# Altium schematic symbol library 13-Standard Logic 逻辑电路.SchLib: 227 symbols (part 2 of 2)
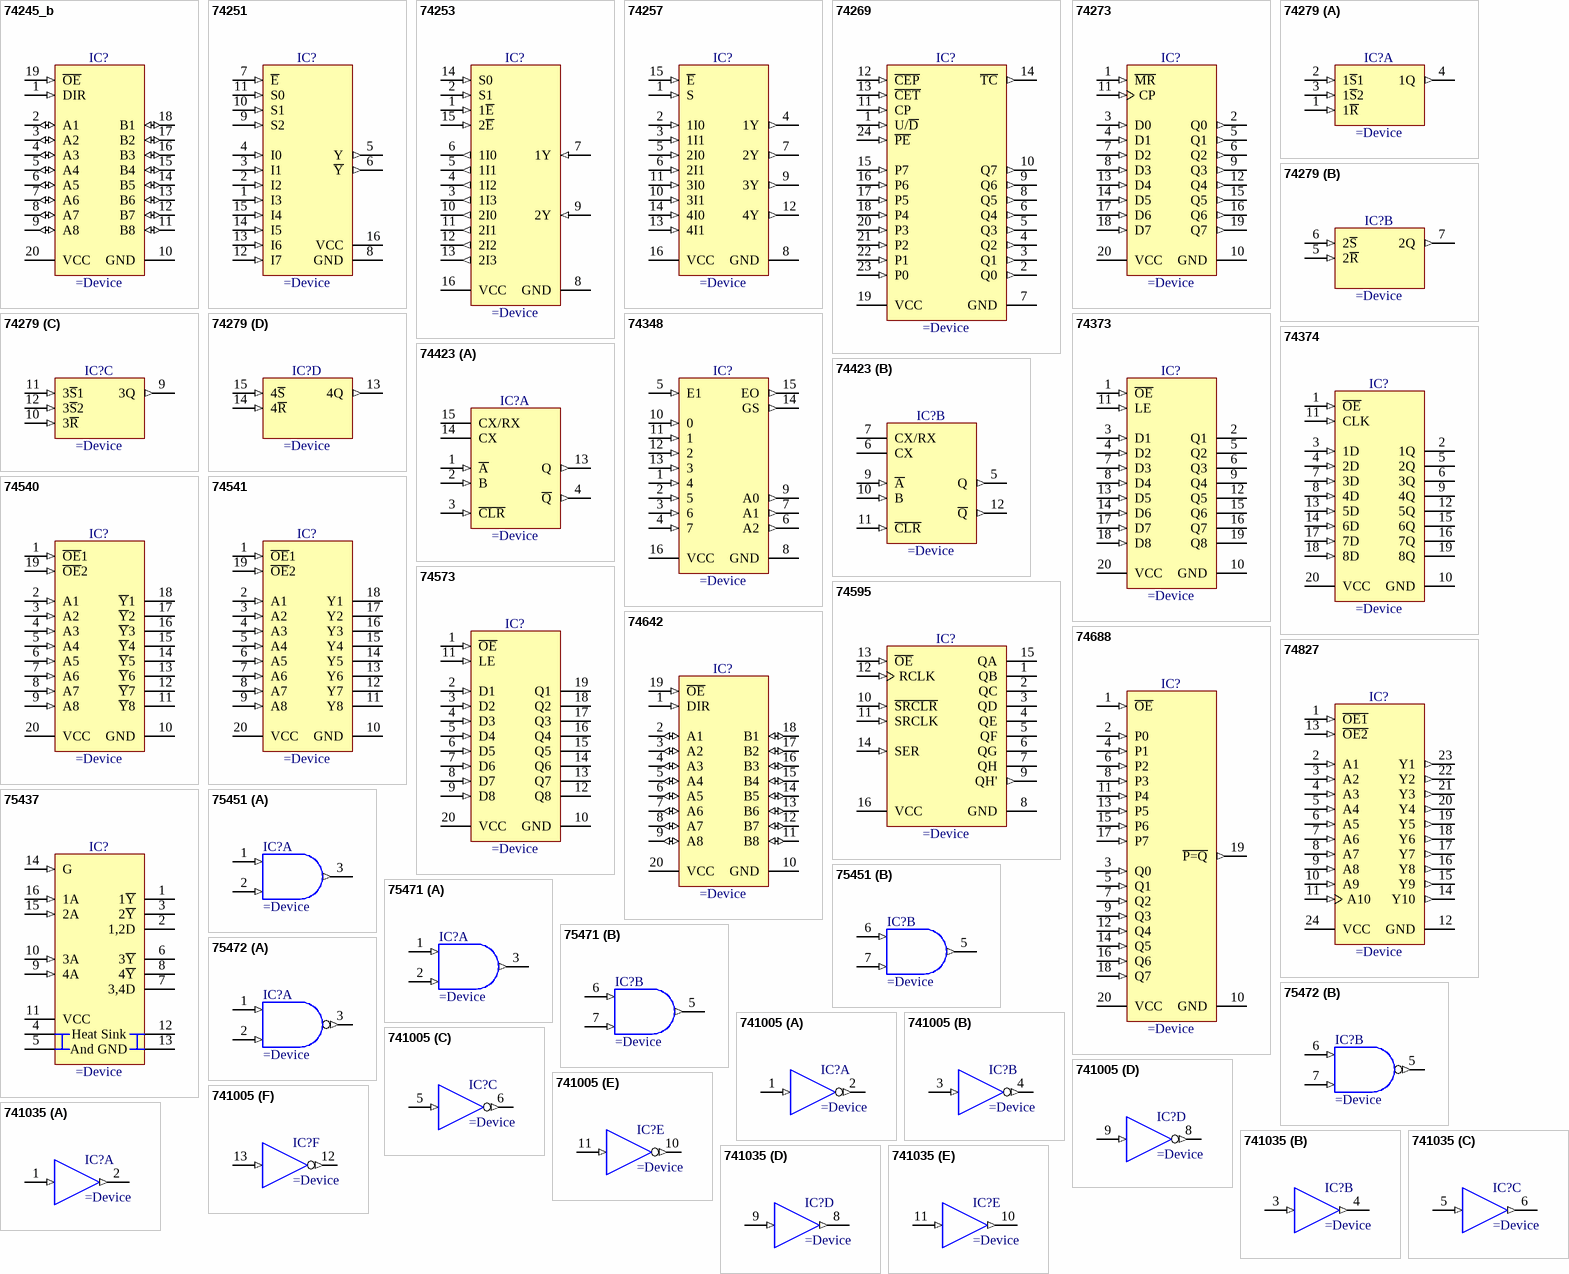
[diagram p11: symbols 74245_b to 741035]

## 74279
designator IC?
Quad S/-R/ Latch
pins on every part: 8 GND (power) hidden to GND, 16 VCC (power) hidden to VCC
part A pins: 1 1~{R} (in), 2 1~{S}1 (in), 3 1~{S}2 (in), 4 1Q (out)
part B pins: 5 2~{R} (in), 6 2~{S} (in), 7 2Q (out)
part C pins: 9 3Q (out), 10 3~{R} (in), 11 3~{S}1 (in), 12 3~{S}2 (in)
part D pins: 13 4Q (out), 14 4~{R} (in), 15 4~{S} (in)

## 74348
designator IC?
8-Line to 3-Line Priority Encoder with 3-State Outputs
pins: 1 4 (in) "data output (active LOW)", 2 5 (in) "data output (active LOW)", 3 6 (in) "data output (active LOW)", 4 7 (in) "data output (active LOW)", 5 E1 (in) "data output (active LOW)", 6 A2 (out) "data output (active LOW)", 7 A1 (out) "data output (active LOW)", 8 GND (power) "data output (active LOW)", 9 A0 (out) "data output (active LOW)", 10 0 (in) "data output (active LOW)", 11 1 (in) "data output (active LOW)", 12 2 (in) "data output (active LOW)", 13 3 (in) "data output (active LOW)", 14 GS (out) "data output (active LOW)", 15 EO (out) "data output (active LOW)", 16 VCC (power) "data output (active LOW)"

## 74373
designator IC?
Octal Transparent D-Type Latches with 3-State Outputs
pins: 1 ~{OE} (in), 2 Q1 (hiz), 3 D1 (in), 4 D2 (in), 5 Q2 (hiz), 6 Q3 (hiz), 7 D3 (in), 8 D4 (in), 9 Q4 (hiz), 10 GND (power), 11 LE (in), 12 Q5 (hiz), 13 D5 (in), 14 D6 (in), 15 Q6 (hiz), 16 Q7 (hiz), 17 D7 (in), 18 D8 (in), 19 Q8 (hiz), 20 VCC (power)

## 74374
designator IC?
Octal Edge-Triggered D-Type Flip-Flops with 3-State Outputs
pins: 1 ~{OE} (in), 2 1Q (hiz), 3 1D (in), 4 2D (in), 5 2Q (hiz), 6 3Q (hiz), 7 3D (in), 8 4D (in), 9 4Q (hiz), 10 GND (power), 11 CLK (in), 12 5Q (hiz), 13 5D (in), 14 6D (in), 15 6Q (hiz), 16 7Q (hiz), 17 7D (in), 18 8D (in), 19 8Q (hiz), 20 VCC (power)

## 74423
designator IC?
Dual Retriggerable Monostable Multivibrator
pins on every part: 8 GND (power) hidden to GND, 16 VCC (power) hidden to VCC
part A pins: 1 ~{A} (in), 2 B (in), 3 ~{CLR} (in), 4 ~{Q} (out), 13 Q (out), 14 CX, 15 CX/RX
part B pins: 5 Q (out), 6 CX, 7 CX/RX, 9 ~{A} (in), 10 B (in), 11 ~{CLR} (in), 12 ~{Q} (out)

## 74540
designator IC?
Octal Buffer and Line Driver with 3-State Outputs
pins: 1 ~{OE}1 (in), 2 A1 (in), 3 A2 (in), 4 A3 (in), 5 A4 (in), 6 A5 (in), 7 A6 (in), 8 A7 (in), 9 A8 (in), 10 GND (power), 11 ~{Y}8 (hiz), 12 ~{Y}7 (hiz), 13 ~{Y}6 (hiz), 14 ~{Y}5 (hiz), 15 ~{Y}4 (hiz), 16 ~{Y}3 (hiz), 17 ~{Y}2 (hiz), 18 ~{Y}1 (hiz), 19 ~{OE}2 (in), 20 VCC (power)

## 74541
designator IC?
Octal Buffer/Line Driver with 3-State Outputs
pins: 1 ~{OE}1 (in), 2 A1 (in), 3 A2 (in), 4 A3 (in), 5 A4 (in), 6 A5 (in), 7 A6 (in), 8 A7 (in), 9 A8 (in), 10 GND (power), 11 Y8 (hiz), 12 Y7 (hiz), 13 Y6 (hiz), 14 Y5 (hiz), 15 Y4 (hiz), 16 Y3 (hiz), 17 Y2 (hiz), 18 Y1 (hiz), 19 ~{OE}2 (in), 20 VCC (power)

## 74573
designator IC?
Octal Transparent D-Type Latches with 3-State Outputs
pins: 1 ~{OE} (in), 2 D1 (in), 3 D2 (in), 4 D3 (in), 5 D4 (in), 6 D5 (in), 7 D6 (in), 8 D7 (in), 9 D8 (in), 10 GND (power), 11 LE (in), 12 Q8 (hiz), 13 Q7 (hiz), 14 Q6 (hiz), 15 Q5 (hiz), 16 Q4 (hiz), 17 Q3 (hiz), 18 Q2 (hiz), 19 Q1 (hiz), 20 VCC (power)

## 74595
designator IC?
8-Bit Shift Register With 3-State Output Register
pins: 1 QB (hiz), 2 QC (hiz), 3 QD (hiz), 4 QE (hiz), 5 QF (hiz), 6 QG (hiz), 7 QH (hiz), 8 GND (power), 9 QH' (out), 10 ~{SRCLR} (in), 11 SRCLK (in), 12 RCLK (in), 13 ~{OE} (in), 14 SER (in), 15 QA (hiz), 16 VCC (power)

## 74642
designator IC?
Octal Inverting Bus Transceiver with Open-Collector Output
pins: 1 DIR (in), 2 A1 (io), 3 A2 (io), 4 A3 (io), 5 A4 (io), 6 A5 (io), 7 A6 (io), 8 A7 (io), 9 A8 (io), 10 GND (power), 11 B8 (io), 12 B7 (io), 13 B6 (io), 14 B5 (io), 15 B4 (io), 16 B3 (io), 17 B2 (io), 18 B1 (io), 19 ~{OE} (in), 20 VCC (power)

## 74688
designator IC?
8-Bit Magnitude Comparator (Equality Detector)
pins: 1 ~{OE} (in), 2 P0 (in), 3 Q0 (in), 4 P1 (in), 5 Q1 (in), 6 P2 (in), 7 Q2 (in), 8 P3 (in), 9 Q3 (in), 10 GND (power), 11 P4 (in), 12 Q4 (in), 13 P5 (in), 14 Q5 (in), 15 P6 (in), 16 Q6 (in), 17 P7 (in), 18 Q7 (in), 19 ~{P=Q} (out), 20 VCC (power)

## 74827
designator IC?
10-Bit Buffer/Driver With 3-State Output
pins: 1 ~{OE1} (in), 2 A1 (in), 3 A2 (in), 4 A3 (in), 5 A4 (in), 6 A5 (in), 7 A6 (in), 8 A7 (in), 9 A8 (in), 10 A9 (in), 11 A10 (in), 12 GND (power), 13 ~{OE2} (in), 14 Y10 (out), 15 Y9 (out), 16 Y8 (out), 17 Y7 (out), 18 Y6 (out), 19 Y5 (out), 20 Y4 (out), 21 Y3 (out), 22 Y2 (out), 23 Y1 (out), 24 VCC (power)

## 75437
designator IC?
Quadruple Peripheral Driver
pins: 1 1~{Y} (oc), 2 1,2D, 3 2~{Y} (oc), 4 GND (power), 5 GND (power), 6 3~{Y} (oc), 7 3,4D, 8 4~{Y} (oc), 9 4A (in), 10 3A (in), 11 VCC (power), 12 GND (power), 13 GND (power), 14 G (in), 15 2A (in), 16 1A (in)
text: Heat Sink; And GND

## 75451
designator IC?
Dual Channel, AND Gate Based Peripheral Driver
pins on every part: 4 GND (power) hidden to GND, 8 VCC (power) hidden to VCC
part A pins: 1 A (in), 2 B (in), 3 Y (out)
part B pins: 5 Y (out), 6 A (in), 7 B (in)

## 75471
designator IC?
Dual Channel, AND Gate Based Peripheral Driver
pins on every part: 4 GND (power) hidden to GND, 8 VCC (power) hidden to VCC
part A pins: 1 A (in), 2 B (in), 3 Y (out)
part B pins: 5 Y (out), 6 A (in), 7 B (in)

## 75472
designator IC?
Dual Channel, NAND Gate Based Peripheral Driver
pins on every part: 4 GND (power) hidden to GND, 8 VCC (power) hidden to VCC
part A pins: 1 A (in), 2 B (in), 3 Y (out)
part B pins: 5 Y (out), 6 A (in), 7 B (in)

## 741005
designator IC?
Hex Inverter Buffers With Open-Collector Output
pins on every part: 7 GND (power) hidden to GND, 14 VCC (power) hidden to VCC
part A pins: 1 IN (in), 2 OUT (out)
part B pins: 3 IN (in), 4 OUT (out)
part C pins: 5 IN (in), 6 OUT (out)
part D pins: 8 OUT (out), 9 IN (in)
part E pins: 10 OUT (out), 11 IN (in)
part F pins: 12 OUT (out), 13 IN (in)

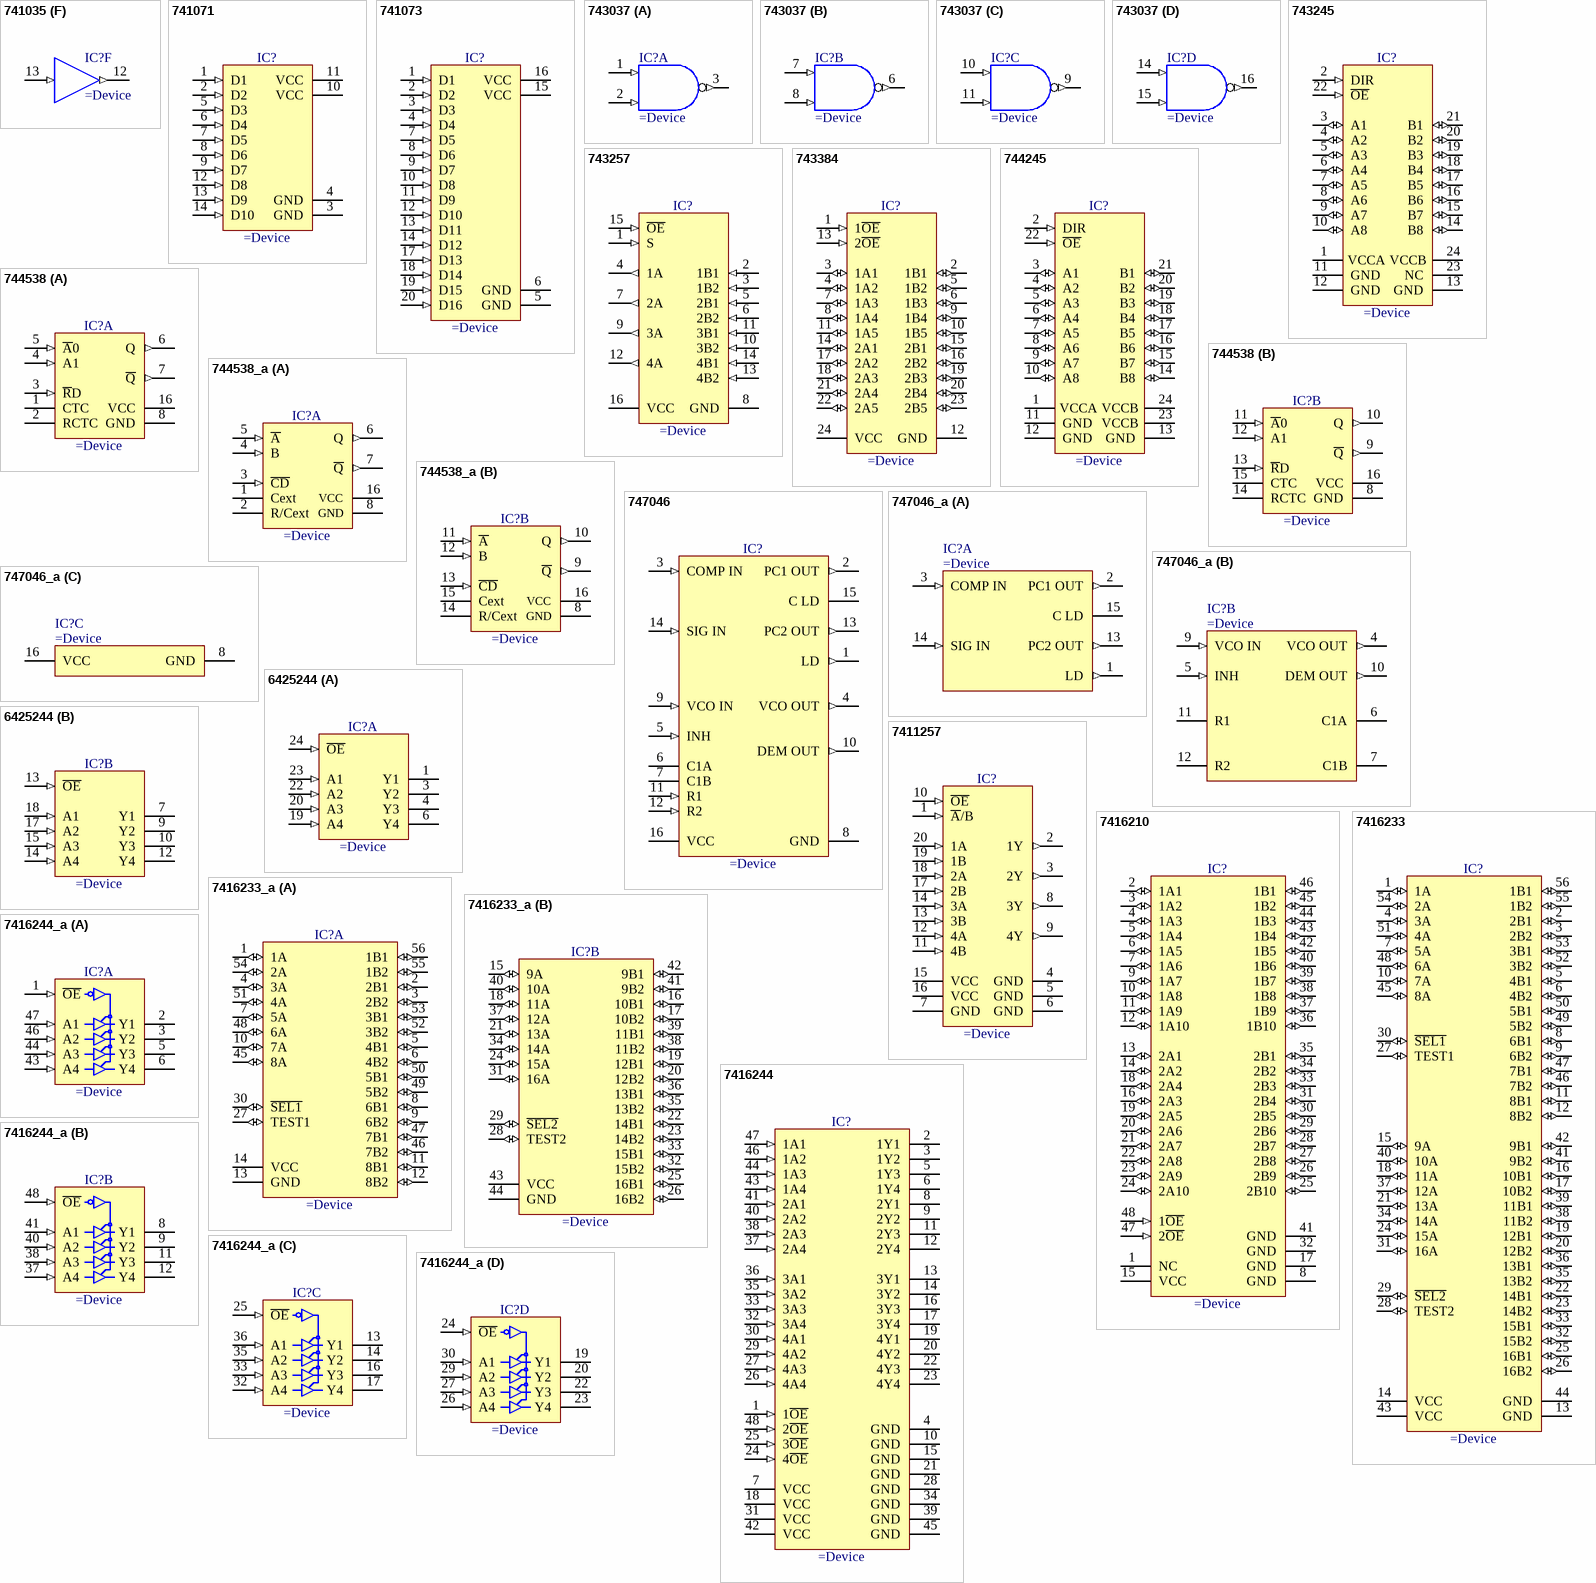
[diagram p9: symbols 741035 to 7416244_a]

## 741035
designator IC?
Hex NonInverting Buffers With Open-Collector Output
pins on every part: 7 GND (power) hidden to GND, 14 VCC (power) hidden to VCC
part A pins: 1 IN (in), 2 OUT (out)
part B pins: 3 IN (in), 4 OUT (out)
part C pins: 5 IN (in), 6 OUT (out)
part D pins: 8 OUT (out), 9 IN (in)
part E pins: 10 OUT (out), 11 IN (in)
part F pins: 12 OUT (out), 13 IN (in)

## 741071
designator IC?
10-Bit Bus-Termination Array With Bus-Hold Function
pins: 1 D1 (in), 2 D2 (in), 3 GND (power), 4 GND (power), 5 D3 (in), 6 D4 (in), 7 D5 (in), 8 D6 (in), 9 D7 (in), 10 VCC (power), 11 VCC (power), 12 D8 (in), 13 D9 (in), 14 D10 (in)

## 741073
designator IC?
16-Bit Bus-Termination Array With Bus-Hold Function
pins: 1 D1 (in), 2 D2 (in), 3 D3 (in), 4 D4 (in), 5 GND (power), 6 GND (power), 7 D5 (in), 8 D6 (in), 9 D7 (in), 10 D8 (in), 11 D9 (in), 12 D10 (in), 13 D11 (in), 14 D12 (in), 15 VCC (power), 16 VCC (power), 17 D13 (in), 18 D14 (in), 19 D15 (in), 20 D16 (in)

## 743037
designator IC?
Quad 2-Input NAND 30 Ohm Line Driver
pins on every part: 4 GND (power) hidden to GND, 5 GND (power) hidden to GND, 12 VCC (power) hidden to VCC, 13 VCC (power) hidden to VCC
part A pins: 1 A (in), 2 B (in), 3 Q (out)
part B pins: 6 Q (out), 7 A (in), 8 B (in)
part C pins: 9 Q (out), 10 A (in), 11 B (in)
part D pins: 14 A (in), 15 B (in), 16 Q (out)

## 743245
designator IC?
Octal Bus Transceiver with Adjustable Output Voltage and 3-State Outputs
pins: 1 VCCA (power), 2 DIR (in), 3 A1 (io), 4 A2 (io), 5 A3 (io), 6 A4 (io), 7 A5 (io), 8 A6 (io), 9 A7 (io), 10 A8 (io), 11 GND (power), 12 GND (power), 13 GND (power), 14 B8 (io), 15 B7 (io), 16 B6 (io), 17 B5 (io), 18 B4 (io), 19 B3 (io), 20 B2 (io), 21 B1 (io), 22 ~{OE} (in), 23 NC, 24 VCCB (power)

## 743257
designator IC?
4-BIT 1-OF-2 FET Multiplexer/Demultiplexer 2.5V/3.3V Low-Voltage Bus Switch 5V Tolerant Shifter
pins: 1 S (in) "data output (active LOW)", 2 1B1 (in) "data output (active LOW)", 3 1B2 (in) "data output (active LOW)", 4 1A (out) "data output (active LOW)", 5 2B1 (in) "data output (active LOW)", 6 2B2 (in) "data output (active LOW)", 7 2A (out) "data output (active LOW)", 8 GND (power) "data output (active LOW)", 9 3A (out) "data output (active LOW)", 10 3B2 (in) "data output (active LOW)", 11 3B1 (in) "data output (active LOW)", 12 4A (out) "data output (active LOW)", 13 4B2 (in) "data output (active LOW)", 14 4B1 (in) "data output (active LOW)", 15 ~{OE} (in) "data output (active LOW)", 16 VCC (power) "data output (active LOW)"

## 743384
designator IC?
10-Bit FET Bus Switch 2.5-V/3.3-V Low-Voltage Bus Switch with 5-V-Tolerant Level Shifter
pins: 1 1~{OE} (in), 2 1B1 (io), 3 1A1 (io), 4 1A2 (io), 5 1B2 (io), 6 1B3 (io), 7 1A3 (io), 8 1A4 (io), 9 1B4 (io), 10 1B5 (io), 11 1A5 (io), 12 GND (power), 13 2~{OE} (in), 14 2A1 (io), 15 2B1 (io), 16 2B2 (io), 17 2A2 (io), 18 2A3 (io), 19 2B3 (io), 20 2B4 (io), 21 2A4 (io), 22 2A5 (io), 23 2B5 (io), 24 VCC (power)

## 744245
designator IC?
Octal Bus Transceiver and 3.3V to 5V Shifter with 3-State Outputs
pins: 1 VCCA (power), 2 DIR (in), 3 A1 (io), 4 A2 (io), 5 A3 (io), 6 A4 (io), 7 A5 (io), 8 A6 (io), 9 A7 (io), 10 A8 (io), 11 GND (power), 12 GND (power), 13 GND (power), 14 B8 (io), 15 B7 (io), 16 B6 (io), 17 B5 (io), 18 B4 (io), 19 B3 (io), 20 B2 (io), 21 B1 (io), 22 ~{OE} (in), 23 VCCB (power), 24 VCCB (power)

## 744538
designator IC?
Dual Retriggerable Precision Monostable Multivibrator
pins on every part: 8 GND (power), 16 VCC (power)
part A pins: 1 CTC, 2 RCTC, 3 ~{R}D (in), 4 A1 (in), 5 ~{A}0 (in), 6 Q (out), 7 ~{Q} (out)
part B pins: 9 ~{Q} (out), 10 Q (out), 11 ~{A}0 (in), 12 A1 (in), 13 ~{R}D (in), 14 RCTC, 15 CTC

## 744538_a
designator IC?
Dual Retriggerable Precision Monostable Multivibrator
pins on every part: 8 GND (power), 16 VCC (power)
part A pins: 1 Cext, 2 R/Cext, 3 ~{CD} (in), 4 B (in), 5 ~{A} (in), 6 Q (out), 7 ~{Q} (out)
part B pins: 9 ~{Q} (out), 10 Q (out), 11 ~{A} (in), 12 B (in), 13 ~{CD} (in), 14 R/Cext, 15 Cext

## 747046
designator IC?
Phase-Locked Loop with VCO and Lock Detector
pins: 1 LD (out), 2 PC1 OUT (out), 3 COMP IN (in), 4 VCO OUT (out), 5 INH (in), 6 C1A, 7 C1B, 8 GND (power), 9 VCO IN (in), 10 DEM OUT (out), 11 R1 (in), 12 R2 (in), 13 PC2 OUT (out), 14 SIG IN (in), 15 C LD, 16 VCC (power)

## 747046_a
designator IC?
Phase-Locked Loop with VCO and Lock Detector
part A pins: 1 LD (out), 2 PC1 OUT (out), 3 COMP IN (in), 13 PC2 OUT (out), 14 SIG IN (in), 15 C LD
part B pins: 4 VCO OUT (out), 5 INH (in), 6 C1A, 7 C1B, 9 VCO IN (in), 10 DEM OUT (out), 11 R1, 12 R2
part C pins: 8 GND (power), 16 VCC (power)

## 6425244
designator IC?
25-Ohm Octal Buffer/Driver with 3-State Outputs
pins on every part: 2 GND (power) hidden to GND, 5 GND (power) hidden to GND, 8 GND (power) hidden to GND, 11 GND (power) hidden to GND, 16 VCC (power) hidden to VCC, 21 VCC (power) hidden to VCC
part A pins: 1 Y1 (hiz), 3 Y2 (hiz), 4 Y3 (hiz), 6 Y4 (hiz), 19 A4 (in), 20 A3 (in), 22 A2 (in), 23 A1 (in), 24 ~{OE} (in)
part B pins: 7 Y1 (hiz), 9 Y2 (hiz), 10 Y3 (hiz), 12 Y4 (hiz), 13 ~{OE} (in), 14 A4 (in), 15 A3 (in), 17 A2 (in), 18 A1 (in)

## 7411257
designator IC?
Quadruple 2-Line to 1-Line Data Selector/Multiplexer With 3-State Outputs
pins: 1 ~{A}/B (in), 2 1Y (out), 3 2Y (out), 4 GND (power), 5 GND (power), 6 GND (power), 7 GND (power), 8 3Y (out), 9 4Y (out), 10 ~{OE} (in), 11 4B (in), 12 4A (in), 13 3B (in), 14 3A (in), 15 VCC (power), 16 VCC (power), 17 2B (in), 18 2A (in), 19 1B (in), 20 1A (in)

## 7416210
designator IC?
20-Bit FET Bus Switch 2.5-V/3.3-V Low-Voltage Bus Switch with 5-V-Tolerant Level Shifter
pins: 1 NC, 2 1A1 (io), 3 1A2 (io), 4 1A3 (io), 5 1A4 (io), 6 1A5 (io), 7 1A6 (io), 8 GND (power), 9 1A7 (io), 10 1A8 (io), 11 1A9 (io), 12 1A10 (io), 13 2A1 (io), 14 2A2 (io), 15 VCC (power), 16 2A3 (io), 17 GND (power), 18 2A4 (io), 19 2A5 (io), 20 2A6 (io), 21 2A7 (io), 22 2A8 (io), 23 2A9 (io), 24 2A10 (io), 25 2B10 (io), 26 2B9 (io), 27 2B8 (io), 28 2B7 (io), 29 2B6 (io), 30 2B5 (io), 31 2B4 (io), 32 GND (power), 33 2B3 (io), 34 2B2 (io), 35 2B1 (io), 36 1B10 (io), 37 1B9 (io), 38 1B8 (io), 39 1B7 (io), 40 1B6 (io), 41 GND (power), 42 1B5 (io), 43 1B4 (io), 44 1B3 (io), 45 1B2 (io), 46 1B1 (io), 47 2~{OE} (in), 48 1~{OE} (in)

## 7416233
designator IC?
16-Bit 1-of-2 FET Multiplexer/Demultiplexer
pins: 1 1A (io), 2 2B1 (io), 3 2B2 (io), 4 3A (io), 5 4B1 (io), 6 4B2 (io), 7 5A (io), 8 6B1 (io), 9 6B2 (io), 10 7A (io), 11 8B1 (io), 12 8B2 (io), 13 GND (power), 14 VCC (power), 15 9A (io), 16 10B1 (io), 17 10B2 (io), 18 11A (io), 19 12B1 (io), 20 12B2 (io), 21 13A (io), 22 14B1 (io), 23 14B2 (io), 24 15A (io), 25 16B1 (io), 26 16B2 (io), 27 TEST1 (io), 28 TEST2 (io), 29 ~{SEL2} (io), 30 ~{SEL1} (io), 31 16A (io), 32 15B2 (io), 33 15B1 (io), 34 14A (io), 35 13B2 (io), 36 13B1 (io), 37 12A (io), 38 11B2 (io), 39 11B1 (io), 40 10A (io), 41 9B2 (io), 42 9B1 (io), 43 VCC (power), 44 GND (power), 45 8A (io), 46 7B2 (io), 47 7B1 (io), 48 6A (io), 49 5B2 (io), 50 5B1 (io), 51 4A (io), 52 3B2 (io), 53 3B1 (io), 54 2A (io), 55 1B2 (io), 56 1B1 (io)

## 7416233_a
designator IC?
16-Bit 1-of-2 FET Multiplexer/Demultiplexer
part A pins: 1 1A (io), 2 2B1 (io), 3 2B2 (io), 4 3A (io), 5 4B1 (io), 6 4B2 (io), 7 5A (io), 8 6B1 (io), 9 6B2 (io), 10 7A (io), 11 8B1 (io), 12 8B2 (io), 13 GND (power), 14 VCC (power), 27 TEST1 (io), 30 ~{SEL1} (io), 45 8A (io), 46 7B2 (io), 47 7B1 (io), 48 6A (io), 49 5B2 (io), 50 5B1 (io), 51 4A (io), 52 3B2 (io), 53 3B1 (io), 54 2A (io), 55 1B2 (io), 56 1B1 (io)
part B pins: 15 9A (io), 16 10B1 (io), 17 10B2 (io), 18 11A (io), 19 12B1 (io), 20 12B2 (io), 21 13A (io), 22 14B1 (io), 23 14B2 (io), 24 15A (io), 25 16B1 (io), 26 16B2 (io), 28 TEST2 (io), 29 ~{SEL2} (io), 31 16A (io), 32 15B2 (io), 33 15B1 (io), 34 14A (io), 35 13B2 (io), 36 13B1 (io), 37 12A (io), 38 11B2 (io), 39 11B1 (io), 40 10A (io), 41 9B2 (io), 42 9B1 (io), 43 VCC (power), 44 GND (power)

## 7416244
designator IC?
16-Bit Buffers/Drivers with 3-State Outputs
pins: 1 1~{OE} (in), 2 1Y1 (hiz), 3 1Y2 (hiz), 4 GND (power), 5 1Y3 (hiz), 6 1Y4 (hiz), 7 VCC (power), 8 2Y1 (hiz), 9 2Y2 (hiz), 10 GND (power), 11 2Y3 (hiz), 12 2Y4 (hiz), 13 3Y1 (hiz), 14 3Y2 (hiz), 15 GND (power), 16 3Y3 (hiz), 17 3Y4 (hiz), 18 VCC (power), 19 4Y1 (hiz), 20 4Y2 (hiz), 21 GND (power), 22 4Y3 (hiz), 23 4Y4 (hiz), 24 4~{OE} (in), 25 3~{OE} (in), 26 4A4 (in), 27 4A3 (in), 28 GND (power), 29 4A2 (in), 30 4A1 (in), 31 VCC (power), 32 3A4 (in), 33 3A3 (in), 34 GND (power), 35 3A2 (in), 36 3A1 (in), 37 2A4 (in), 38 2A3 (in), 39 GND (power), 40 2A2 (in), 41 2A1 (in), 42 VCC (power), 43 1A4 (in), 44 1A3 (in), 45 GND (power), 46 1A2 (in), 47 1A1 (in), 48 2~{OE} (in)

## 7416244_a
designator IC?
16-Bit Buffers/Drivers with 3-State Outputs
pins on every part: 4 GND (power) hidden to GND, 7 VCC (power) hidden to VCC, 10 GND (power) hidden to GND, 15 GND (power) hidden to GND, 18 VCC (power) hidden to VCC, 21 GND (power) hidden to GND, 28 GND (power) hidden to GND, 31 VCC (power) hidden to VCC, 34 GND (power) hidden to GND, 39 GND (power) hidden to GND, 42 VCC (power) hidden to VCC, 45 GND (power) hidden to GND
part A pins: 1 ~{OE} (in), 2 Y1 (hiz), 3 Y2 (hiz), 5 Y3 (hiz), 6 Y4 (hiz), 43 A4 (in), 44 A3 (in), 46 A2 (in), 47 A1 (in)
part B pins: 8 Y1 (hiz), 9 Y2 (hiz), 11 Y3 (hiz), 12 Y4 (hiz), 37 A4 (in), 38 A3 (in), 40 A2 (in), 41 A1 (in), 48 ~{OE} (in)
part C pins: 13 Y1 (hiz), 14 Y2 (hiz), 16 Y3 (hiz), 17 Y4 (hiz), 25 ~{OE} (in), 32 A4 (in), 33 A3 (in), 35 A2 (in), 36 A1 (in)
part D pins: 19 Y1 (hiz), 20 Y2 (hiz), 22 Y3 (hiz), 23 Y4 (hiz), 24 ~{OE} (in), 26 A4 (in), 27 A3 (in), 29 A2 (in), 30 A1 (in)

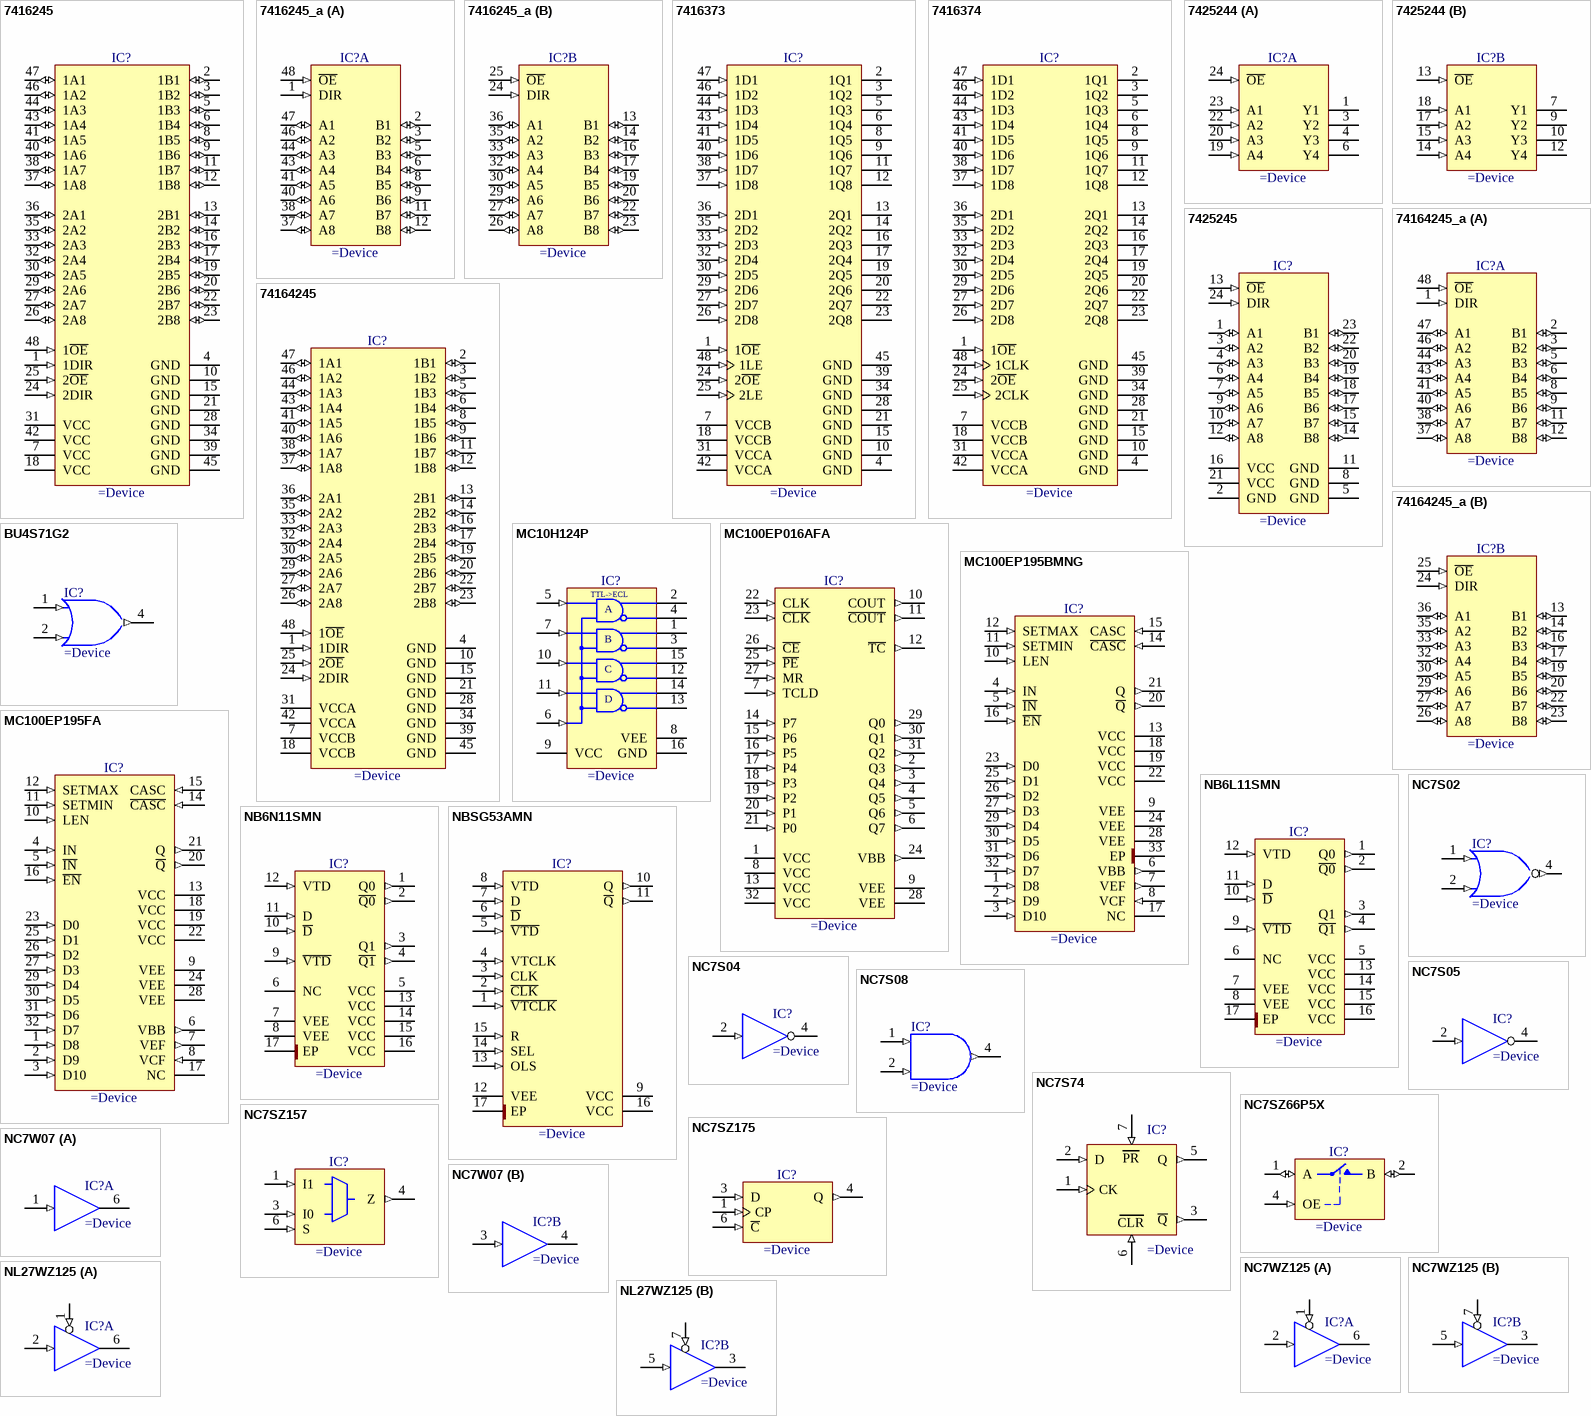
[diagram p10: symbols 7416245 to NL27WZ125]

## 7416245
designator IC?
16-Bit Bus Transceiver with 3-State Outputs
pins: 1 1DIR (in), 2 1B1 (io), 3 1B2 (io), 4 GND (power), 5 1B3 (io), 6 1B4 (io), 7 VCC (power), 8 1B5 (io), 9 1B6 (io), 10 GND (power), 11 1B7 (io), 12 1B8 (io), 13 2B1 (io), 14 2B2 (io), 15 GND (power), 16 2B3 (io), 17 2B4 (io), 18 VCC (power), 19 2B5 (io), 20 2B6 (io), 21 GND (power), 22 2B7 (io), 23 2B8 (io), 24 2DIR (in), 25 2~{OE} (in), 26 2A8 (io), 27 2A7 (io), 28 GND (power), 29 2A6 (io), 30 2A5 (io), 31 VCC (power), 32 2A4 (io), 33 2A3 (io), 34 GND (power), 35 2A2 (io), 36 2A1 (io), 37 1A8 (io), 38 1A7 (io), 39 GND (power), 40 1A6 (io), 41 1A5 (io), 42 VCC (power), 43 1A4 (io), 44 1A3 (io), 45 GND (power), 46 1A2 (io), 47 1A1 (io), 48 1~{OE} (in)

## 7416245_a
designator IC?
16-Bit Bus Transceiver with 3-State Outputs
pins on every part: 4 GND (power) hidden to GND, 7 VCC (power) hidden to VCC, 10 GND (power) hidden to GND, 15 GND (power) hidden to GND, 18 VCC (power) hidden to VCC, 21 GND (power) hidden to GND, 28 GND (power) hidden to GND, 31 VCC (power) hidden to VCC, 34 GND (power) hidden to GND, 39 GND (power) hidden to GND, 42 VCC (power) hidden to VCC, 45 GND (power) hidden to GND
part A pins: 1 DIR (in), 2 B1 (io), 3 B2 (io), 5 B3 (io), 6 B4 (io), 8 B5 (io), 9 B6 (io), 11 B7 (io), 12 B8 (io), 37 A8 (io), 38 A7 (io), 40 A6 (io), 41 A5 (io), 43 A4 (io), 44 A3 (io), 46 A2 (io), 47 A1 (io), 48 ~{OE} (in)
part B pins: 13 B1 (io), 14 B2 (io), 16 B3 (io), 17 B4 (io), 19 B5 (io), 20 B6 (io), 22 B7 (io), 23 B8 (io), 24 DIR (in), 25 ~{OE} (in), 26 A8 (io), 27 A7 (io), 29 A6 (io), 30 A5 (io), 32 A4 (io), 33 A3 (io), 35 A2 (io), 36 A1 (io)

## 7416373
designator IC?
16-Bit Transparent D-Type Latches with 3-State Outputs
pins: 1 1~{OE} (in), 2 1Q1 (hiz), 3 1Q2 (hiz), 4 GND (power), 5 1Q3 (hiz), 6 1Q4 (hiz), 7 VCCB (power), 8 1Q5 (hiz), 9 1Q6 (hiz), 10 GND (power), 11 1Q7 (hiz), 12 1Q8 (hiz), 13 2Q1 (hiz), 14 2Q2 (hiz), 15 GND (power), 16 2Q3 (hiz), 17 2Q4 (hiz), 18 VCCB (power), 19 2Q5 (hiz), 20 2Q6 (hiz), 21 GND (power), 22 2Q7 (hiz), 23 2Q8 (hiz), 24 2~{OE} (in), 25 2LE (in), 26 2D8 (in), 27 2D7 (in), 28 GND (power), 29 2D6 (in), 30 2D5 (in), 31 VCCA (power), 32 2D4 (in), 33 2D3 (in), 34 GND (power), 35 2D2 (in), 36 2D1 (in), 37 1D8 (in), 38 1D7 (in), 39 GND (power), 40 1D6 (in), 41 1D5 (in), 42 VCCA (power), 43 1D4 (in), 44 1D3 (in), 45 GND (power), 46 1D2 (in), 47 1D1 (in), 48 1LE (in)

## 7416374
designator IC?
16-Bit Edge-Triggered D-Type Flip-Flop with 3-State Outputs
pins: 1 1~{OE} (in), 2 1Q1 (hiz), 3 1Q2 (hiz), 4 GND (power), 5 1Q3 (hiz), 6 1Q4 (hiz), 7 VCCB (power), 8 1Q5 (hiz), 9 1Q6 (hiz), 10 GND (power), 11 1Q7 (hiz), 12 1Q8 (hiz), 13 2Q1 (hiz), 14 2Q2 (hiz), 15 GND (power), 16 2Q3 (hiz), 17 2Q4 (hiz), 18 VCCB (power), 19 2Q5 (hiz), 20 2Q6 (hiz), 21 GND (power), 22 2Q7 (hiz), 23 2Q8 (hiz), 24 2~{OE} (in), 25 2CLK (in), 26 2D8 (in), 27 2D7 (in), 28 GND (power), 29 2D6 (in), 30 2D5 (in), 31 VCCA (power), 32 2D4 (in), 33 2D3 (in), 34 GND (power), 35 2D2 (in), 36 2D1 (in), 37 1D8 (in), 38 1D7 (in), 39 GND (power), 40 1D6 (in), 41 1D5 (in), 42 VCCA (power), 43 1D4 (in), 44 1D3 (in), 45 GND (power), 46 1D2 (in), 47 1D1 (in), 48 1CLK (in)

## 7425244
designator IC?
25-Ohm Octal Buffer/Driver with 3-State Outputs
pins on every part: 2 GND (power) hidden to GND, 5 GND (power) hidden to GND, 8 GND (power) hidden to GND, 11 GND (power) hidden to GND, 16 VCC (power) hidden to VCC, 21 VCC (power) hidden to VCC
part A pins: 1 Y1 (hiz), 3 Y2 (hiz), 4 Y3 (hiz), 6 Y4 (hiz), 19 A4 (in), 20 A3 (in), 22 A2 (in), 23 A1 (in), 24 ~{OE} (in)
part B pins: 7 Y1 (hiz), 9 Y2 (hiz), 10 Y3 (hiz), 12 Y4 (hiz), 13 ~{OE} (in), 14 A4 (in), 15 A3 (in), 17 A2 (in), 18 A1 (in)

## 7425245
designator IC?
25 Ohms Octal Bus Transceiver With 3-State Outputs
pins: 1 A1 (io), 2 GND (power), 3 A2 (io), 4 A3 (io), 5 GND (power), 6 A4 (io), 7 A5 (io), 8 GND (power), 9 A6 (io), 10 A7 (io), 11 GND (power), 12 A8 (io), 13 ~{OE} (in), 14 B8 (io), 15 B7 (io), 16 VCC (power), 17 B6 (io), 18 B5 (io), 19 B4 (io), 20 B3 (io), 21 VCC (power), 22 B2 (io), 23 B1 (io), 24 DIR (in)

## 74164245
designator IC?
16-Bit 2.5V To 3.3V/3.3V TO 5V Level-Shifting Transceiver with 3-State Outputs
pins: 1 1DIR (in), 2 1B1 (io), 3 1B2 (io), 4 GND (power), 5 1B3 (io), 6 1B4 (io), 7 VCCB (power), 8 1B5 (io), 9 1B6 (io), 10 GND (power), 11 1B7 (io), 12 1B8 (io), 13 2B1 (io), 14 2B2 (io), 15 GND (power), 16 2B3 (io), 17 2B4 (io), 18 VCCB (power), 19 2B5 (io), 20 2B6 (io), 21 GND (power), 22 2B7 (io), 23 2B8 (io), 24 2DIR (in), 25 2~{OE} (in), 26 2A8 (io), 27 2A7 (io), 28 GND (power), 29 2A6 (io), 30 2A5 (io), 31 VCCA (power), 32 2A4 (io), 33 2A3 (io), 34 GND (power), 35 2A2 (io), 36 2A1 (io), 37 1A8 (io), 38 1A7 (io), 39 GND (power), 40 1A6 (io), 41 1A5 (io), 42 VCCA (power), 43 1A4 (io), 44 1A3 (io), 45 GND (power), 46 1A2 (io), 47 1A1 (io), 48 1~{OE} (in)

## 74164245_a
designator IC?
16-Bit 2.5V To 3.3V/3.3V TO 5V Level-Shifting Transceiver with 3-State Outputs
pins on every part: 4 GND (power) hidden to GND, 7 VCCB (power) hidden to VCC, 10 GND (power) hidden to GND, 15 GND (power) hidden to GND, 18 VCCB (power) hidden to VCC, 21 GND (power) hidden to GND, 28 GND (power) hidden to GND, 31 VCCA (power) hidden to VCC, 34 GND (power) hidden to GND, 39 GND (power) hidden to GND, 42 VCCA (power) hidden to VCC, 45 GND (power) hidden to GND
part A pins: 1 DIR (in), 2 B1 (io), 3 B2 (io), 5 B3 (io), 6 B4 (io), 8 B5 (io), 9 B6 (io), 11 B7 (io), 12 B8 (io), 37 A8 (io), 38 A7 (io), 40 A6 (io), 41 A5 (io), 43 A4 (io), 44 A3 (io), 46 A2 (io), 47 A1 (io), 48 ~{OE} (in)
part B pins: 13 B1 (io), 14 B2 (io), 16 B3 (io), 17 B4 (io), 19 B5 (io), 20 B6 (io), 22 B7 (io), 23 B8 (io), 24 DIR (in), 25 ~{OE} (in), 26 A8 (io), 27 A7 (io), 29 A6 (io), 30 A5 (io), 32 A4 (io), 33 A3 (io), 35 A2 (io), 36 A1 (io)

## BU4S71G2
designator IC?
Single 2-Input OR Gate
pins: 1 A (in), 2 B (in), 3 GND (power) hidden to GND, 4 Y (out), 5 VCC (power) hidden to VCC

## MC10H124P
designator IC?
Quad TTL-to-MECL Translator with TTL Strobe Input
pins: 1 BOUT (oe), 2 AOUT (oe), 3 ~{BOUT} (oe), 4 ~{AOUT} (oe), 5 AIN (in), 6 STB (in), 7 BIN (in), 8 VEE (power), 9 VCC (power), 10 CIN (in), 11 DIN (in), 12 ~{COUT} (oe), 13 ~{DOUT} (oe), 14 DOUT (oe), 15 COUT (oe), 16 GND (power)
text: TTL->ECL; A; B; C; D

## MC100EP016AFA
designator IC?
3.3 V ECL 8-Bit Synchronous Binary Up Counter
pins: 1 VCC (power), 2 Q3 (out), 3 Q4 (out), 4 Q5 (out), 5 Q6 (out), 6 Q7 (out), 7 TCLD (in), 8 VCC (power), 9 VEE (power), 10 COUT (out), 11 ~{COUT} (out), 12 ~{TC} (out), 13 VCC (power), 14 P7 (in), 15 P6 (in), 16 P5 (in), 17 P4 (in), 18 P3 (in), 19 P2 (in), 20 P1 (in), 21 P0 (in), 22 CLK (in), 23 ~{CLK} (in), 24 VBB (out), 25 ~{PE} (in), 26 ~{CE} (in), 27 MR (in), 28 VEE (power), 29 Q0 (out), 30 Q1 (out), 31 Q2 (out), 32 VCC (power)

## MC100EP195BMNG
designator IC?
3.3V ECL Programmable Delay Chip
pins: 1 D8 (in), 2 D9 (in), 3 D10 (in), 4 IN (in), 5 ~{IN} (in), 6 VBB (out), 7 VEF (out), 8 VCF (in), 9 VEE (power), 10 LEN (in), 11 SETMIN (in), 12 SETMAX (in), 13 VCC (power), 14 ~{CASC} (in), 15 CASC (in), 16 ~{EN} (in), 17 NC, 18 VCC (power), 19 VCC (power), 20 ~{Q} (out), 21 Q (out), 22 VCC (power), 23 D0 (in), 24 VEE (power), 25 D1 (in), 26 D2 (in), 27 D3 (in), 28 VEE (power), 29 D4 (in), 30 D5 (in), 31 D6 (in), 32 D7 (in), 33 EP (power)

## MC100EP195FA
designator IC?
3.3V ECL Programmable Delay Chip
pins: 1 D8 (in), 2 D9 (in), 3 D10 (in), 4 IN (in), 5 ~{IN} (in), 6 VBB (out), 7 VEF (out), 8 VCF (in), 9 VEE (power), 10 LEN (in), 11 SETMIN (in), 12 SETMAX (in), 13 VCC (power), 14 ~{CASC} (in), 15 CASC (in), 16 ~{EN} (in), 17 NC, 18 VCC (power), 19 VCC (power), 20 ~{Q} (out), 21 Q (out), 22 VCC (power), 23 D0 (in), 24 VEE (power), 25 D1 (in), 26 D2 (in), 27 D3 (in), 28 VEE (power), 29 D4 (in), 30 D5 (in), 31 D6 (in), 32 D7 (in)

## NB6L11SMN
designator IC?
2.5V 1:2 AnyLevel Input to LVDS Fanout Buffer / Translator
pins: 1 Q0 (out), 2 ~{Q0} (out), 3 Q1 (out), 4 ~{Q1} (out), 5 VCC (power), 6 NC, 7 VEE (power), 8 VEE (power), 9 ~{VTD} (in), 10 ~{D} (in), 11 D (in), 12 VTD (in), 13 VCC (power), 14 VCC (power), 15 VCC (power), 16 VCC (power), 17 EP (power)

## NB6N11SMN
designator IC?
3.3V 1:2 AnyLevel Input to LVDS Fanout Buffer / Translator
pins: 1 Q0 (out), 2 ~{Q0} (out), 3 Q1 (out), 4 ~{Q1} (out), 5 VCC (power), 6 NC, 7 VEE (power), 8 VEE (power), 9 ~{VTD} (in), 10 ~{D} (in), 11 D (in), 12 VTD (in), 13 VCC (power), 14 VCC (power), 15 VCC (power), 16 VCC (power), 17 EP (power)

## NBSG53AMN
designator IC?
2.5V/3.3V SiGe Selectable Differential Clock and Data D Flip-Flop/Clock Divider with Reset and OLS
pins: 1 ~{VTCLK} (in), 2 ~{CLK} (in), 3 CLK (in), 4 VTCLK (in), 5 ~{VTD} (in), 6 ~{D} (in), 7 D (in), 8 VTD (in), 9 VCC (power), 10 Q (out), 11 ~{Q} (out), 12 VEE (power), 13 OLS (in), 14 SEL (in), 15 R (in), 16 VCC (power), 17 EP (power)

## NC7S02
designator IC?
TinyLogic® UHS Two-Input NOR Gate
pins: 1 A (in), 2 B (in), 3 GND (power) hidden to GND, 4 Y (out), 5 VCC (power) hidden to VDD

## NC7S04
designator IC?
TinyLogic® HS Inverter (Open Drain Output)
pins: 2 IN (in), 3 GND (power) hidden to GND, 4 OUT (oc), 5 VCC (power) hidden to VDD

## NC7S05
designator IC?
TinyLogic® UHS Inverter (Open Drain Output)
pins: 2 IN (in), 3 GND (power) hidden to GND, 4 OUT (oc), 5 VCC (power) hidden to VDD

## NC7S08
designator IC?
pins: 1 A (in), 2 B (in), 3 GND (power) hidden to GND, 4 Y (out), 5 VDD (power) hidden to VDD

## NC7S74
designator IC?
TinyLogic® UHS D-Type Flip-Flop With Preset And Clear
pins: 1 CK (in), 2 D (in), 3 ~{Q} (out), 4 GND (power) hidden, 5 Q (out), 6 ~{CLR} (in), 7 ~{PR} (in), 8 VCC (power) hidden
text: PR; CLR

## NC7SZ66P5X
designator IC?
TinyLogic® Low Voltage Single SPST Normally Open Bus Switch
pins: 1 A (io), 2 B (io), 3 GND (power) hidden to GND, 4 OE (in), 5 VCC (power) hidden to VCC

## NC7SZ157
designator IC?
TinyLogic® UHS 2-Input Non-Inverting Multiplexer
pins: 1 I1 (in), 2 GND (power) hidden to GND, 3 I0 (in), 4 Z (out), 5 VCC (power) hidden to VCC, 6 S (in)

## NC7SZ175
designator IC?
TinyLogic® UHS D-Type Flip-Flop with Asynchronous Clear
pins: 1 CP (in), 2 GND (power) hidden to GND, 3 D (in), 4 Q (out), 5 VCC (power) hidden to VCC, 6 ~{C} (in)

## NC7W07
designator IC?
TinyLogic® UHS Dual Buffer (Open Drain Outputs)
pins on every part: 2 GND (power) hidden to GND, 5 VCC (power) hidden to VDD
part A pins: 1 IN (in), 6 OUT (oc)
part B pins: 3 IN (in), 4 OUT (oc)

## NC7WZ125
designator IC?
TinyLogic® UHS Dual Buffer With 3-State Outputs
pins on every part: 4 GND (power) hidden to GND, 8 VCC (power) hidden to VCC
part A pins: 1 ~{OE} (in), 2 A (in), 6 Y (hiz)
part B pins: 3 Y (hiz), 5 A (in), 7 O/E (in)

## NL27WZ125
designator IC?
Dual Buffer With 3-State Outputs
pins on every part: 4 GND (power) hidden to GND, 8 VCC (power) hidden to VCC
part A pins: 1 ~{OE} (in), 2 A (in), 6 Y (hiz)
part B pins: 3 Y (hiz), 5 A (in), 7 O/E (in)